# Altium schematic symbol library bypass_conn.SchLib: 1 symbol
Pins are listed as number, name and electrical type; pins without a type are passive.

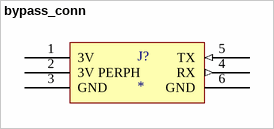
[diagram p0: symbol bypass_conn]

## bypass_conn
designator J?
footprint bypass_conn
pins: 1 3V (power), 2 3V PERPH (power), 3 GND (power), 4 RX (out), 5 TX (in), 6 GND (power)